# Altium schematic symbol library UA78M05.SchLib: 1 symbol
Pins are listed as number, name and electrical type; pins without a type are passive.

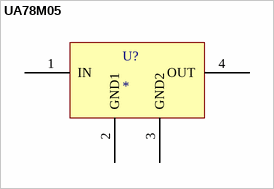
[diagram p0: symbol UA78M05]

## UA78M05
designator U?
footprint UA78M05 (SOT223, 4-Leads, Body 6.50x7.00mm (avg), Pitch 2.30mm, IPC Medium Density)
pins: 1 IN, 2 GND1, 3 GND2, 4 OUT